# Altium schematic symbol library MX35.SchLib: 1 symbol
Pins are listed as number, name and electrical type; pins without a type are passive.

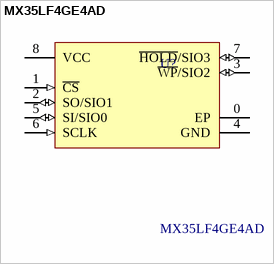
[diagram p0: symbol MX35LF4GE4AD]

## MX35LF4GE4AD
designator U?
IC FLSH 4GBIT (Q)SPI 120MHZ 8WSON; RoHS Compliant: Yes
pins: 0 EP (power), 1 ~{CS} (in), 2 SO/SIO1 (io), 3 ~{WP}/SIO2 (io), 4 GND (power), 5 SI/SIO0 (io), 6 SCLK (in), 7 ~{HOLD}/SIO3 (io), 8 VCC (power)